# Altium schematic symbol library LCDs.SchLib: 1 symbol
Pins are listed as number, name and electrical type; pins without a type are passive.

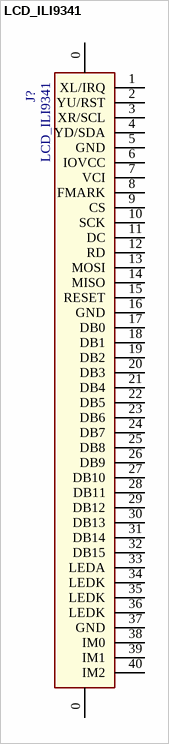
[diagram p0: symbol LCD_ILI9341]

## LCD_ILI9341
designator J?, comment value LCD_ILI9341  (hidden comment: Farnell no: 1112564)
50pin FPC connector, 0.5mm pitch, Top/Bottom contacts; PartGroup: Mechanical devices,Connectors,PCB - receptacle; Manufacturer: Omron Components; MPN: XF2M-5015-1A; AN: A08-1731; TemperatureRange: -30°C to +85°C
footprint FPC 40 (0.5 mm)
pins: 0 1, 0 1, 1 XL/IRQ, 2 YU/RST, 3 XR/SCL, 4 YD/SDA, 5 GND, 6 IOVCC, 7 VCI, 8 FMARK, 9 CS, 10 SCK, 11 DC, 12 RD, 13 MOSI, 14 MISO, 15 RESET, 16 GND, 17 DB0, 18 DB1, 19 DB2, 20 DB3, 21 DB4, 22 DB5, 23 DB6, 24 DB7, 25 DB8, 26 DB9, 27 DB10, 28 DB11, 29 DB12, 30 DB13, 31 DB14, 32 DB15, 33 LEDA, 34 LEDK, 35 LEDK, 36 LEDK, 37 GND, 38 IM0, 39 IM1, 40 IM2